# EAGLE library part AN5274 (library Audio-Power-amlifier V.2.0)
The AN5274 is a monolithic integrated circuit designed for 4.0 W (18 V, 8 W) output audio power amplifier. It is a dual channel SEPP IC suitable for stereo operation in TV application.
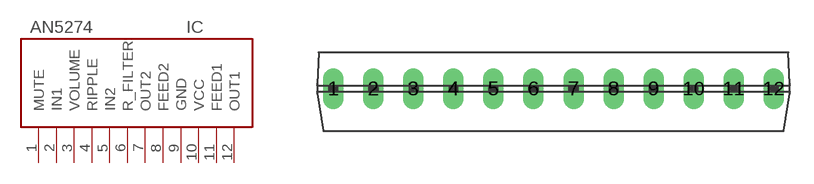
[diagram p141: symbol with the pads of HSIP012-P-0000B-2,54; footprint HSIP012-P-0000B-2,54]

Designator prefix IC

## AN5274  [HSIP012-P-0000B-2,54]
1  MUTE  in
2  IN1  in
3  VOLUME  in
4  RIPPLE
5  IN2  in
6  R_FILTER
7  OUT2  out
8  FEED2
9  GND  pwr
10  VCC  pwr
11  FEED1
12  OUT1  out

## Footprint HSIP012-P-0000B-2,54 (pad centres in mm)
drill 0.8 long: 1 -13.97,0; 2 -11.43,0; 3 -8.89,0; 4 -6.35,0; 5 -3.81,0; 6 -1.27,0; 7 1.27,0; 8 3.81,0; 9 6.35,0; 10 8.89,0; 11 11.43,0; 12 13.97,0